# Altium integrated library Diodes - TVS.IntLib: 5379 symbols (part 42 of 122)
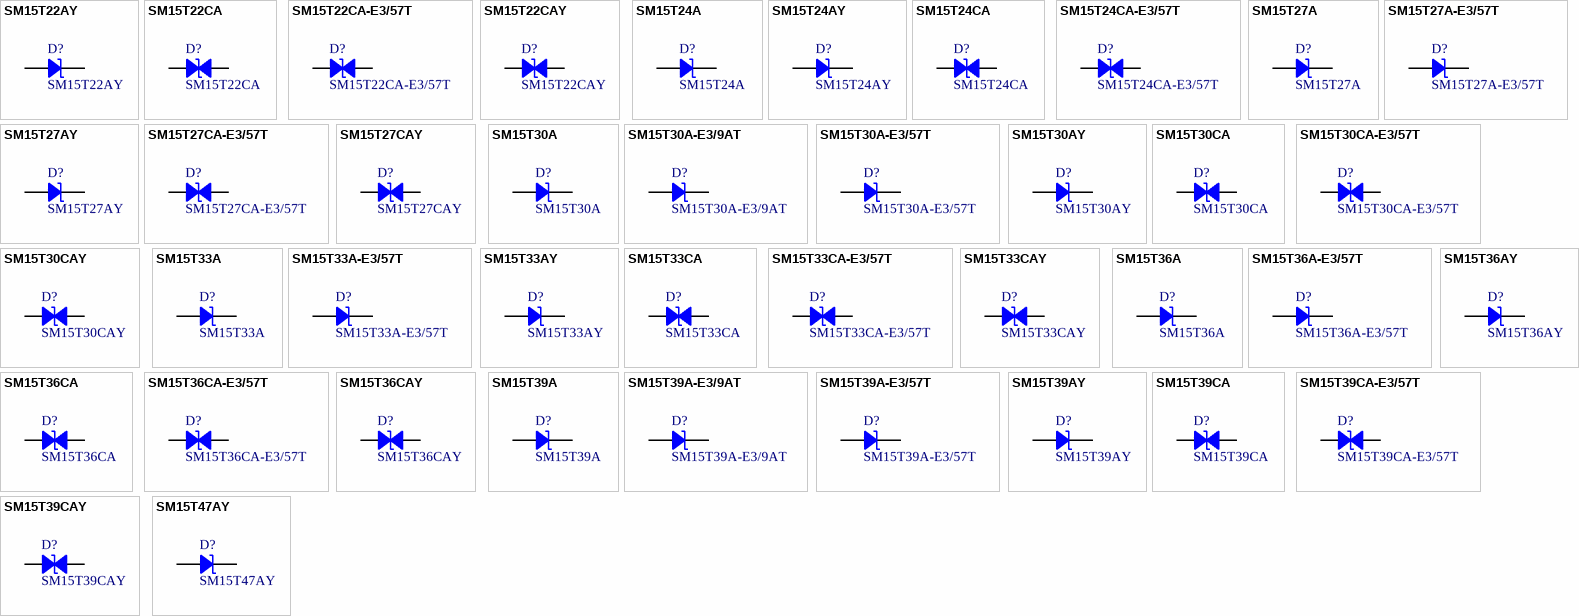
[diagram p175: symbols SM15T22AY to SM15T47AY]

## SM15T27AY
designator D?
TVS DIODE 23.1V 48.3V SMC; Manufacturer: STMicroelectronics; Current - Peak Pulse (10/1000µs): 207A (8/20µs); Power Line Protection: No; Power - Peak Pulse: 1500W (1.5kW); Type: Zener; Unidirectional Channels: 1; Voltage - Breakdown (Min): 25.7V; Part Number: SM15T27AY; Applications: Automotive; ComponentLink1Description: Datasheet; ComponentLink1URL: http://www.st.com/content/ccc/resource/technical/document/datasheet/83/5f/b6/7b/63/85/41/b5/CD00283429.pdf/files/CD00283429.pdf/jcr:content/translations/en.CD00283429.pdf; ComponentLink2Description: DigiKey Link; ComponentLink2URL: http://digikey.com/product-detail/en/stmicroelectronics/SM15T27AY/497-SM15T27AYCT-ND/2442965; LastUpdated: 9/2/2020 1:19:58 AM; Lifecycle Status: Active; Minimum Order: 1; Mounting Type: Surface Mount; Operating Temperature: -40°C ~ 150°C (TJ); Package / Case: DO-214AB, SMC; Packaging: TapeAndReel; PartId: 6216; Part Status: Active; Price: 0.37; Series: Automotive, AEC-Q101, SM15TY, TRANSIL™; Supplier 1: DigiKey; Supplier Part Number 1: 497-SM15T27AYCT-ND; Supplier Device Package: SMC; Voltage - Clamping (Max) @ Ipp: 48.3V; Voltage - Reverse Standoff (Typ): 23.1V
footprint DO214AB SMC
pins: 1, 2

## SM15T27CA-E3/57T
designator D?
TVS DIODE 23.1V 37.5V DO214AB; Manufacturer: Vishay Semiconductor Diodes Division; Bidirectional Channels: 1; Current - Peak Pulse (10/1000µs): 40A; Power Line Protection: No; Power - Peak Pulse: 1500W (1.5kW); Type: Zener; Voltage - Breakdown (Min): 25.7V; Part Number: SM15T27CA-E3/57T; Applications: General Purpose; ComponentLink1Description: Datasheet; ComponentLink1URL: http://www.vishay.com/docs/88380/sm15t.pdf; ComponentLink2Description: DigiKey Link; ComponentLink2URL: http://digikey.com/product-detail/en/vishay-semiconductor-diodes-division/SM15T27CA-E3-57T/SM15T27CA-E3-57TGICT-ND/3847613; LastUpdated: 9/2/2020 1:28:05 AM; Lifecycle Status: Active; Minimum Order: 1; Mounting Type: Surface Mount; Operating Temperature: -65°C ~ 150°C (TJ); Package / Case: DO-214AB, SMC; Packaging: TapeAndReel; PartId: 8288; Part Status: Active; Price: 0.34; Series: SM15T, TransZorb®; Supplier 1: DigiKey; Supplier Part Number 1: SM15T27CA-E3/57TGICT-ND; Supplier Device Package: DO-214AB (SMCJ); Voltage - Clamping (Max) @ Ipp: 37.5V; Voltage - Reverse Standoff (Typ): 23.1V
footprint DO214AB SMC
pins: 1, 2

## SM15T27CAY
designator D?
TVS DIODE 23.1V 48.3V SMC; Manufacturer: STMicroelectronics; Bidirectional Channels: 1; Current - Peak Pulse (10/1000µs): 207A (8/20µs); Power Line Protection: No; Power - Peak Pulse: 1500W (1.5kW); Type: Zener; Voltage - Breakdown (Min): 25.7V; Part Number: SM15T27CAY; Applications: Automotive; ComponentLink1Description: Datasheet; ComponentLink1URL: http://www.st.com/content/ccc/resource/technical/document/datasheet/83/5f/b6/7b/63/85/41/b5/CD00283429.pdf/files/CD00283429.pdf/jcr:content/translations/en.CD00283429.pdf; ComponentLink2Description: DigiKey Link; ComponentLink2URL: http://digikey.com/product-detail/en/stmicroelectronics/SM15T27CAY/497-10900-1-ND/2522523; LastUpdated: 9/2/2020 1:28:03 AM; Lifecycle Status: Active; Minimum Order: 1; Mounting Type: Surface Mount; Operating Temperature: -40°C ~ 150°C (TJ); Package / Case: DO-214AB, SMC; Packaging: TapeAndReel; PartId: 8074; Part Status: Active; Price: 0.37; Series: Automotive, AEC-Q101, SM15TY, TRANSIL™; Supplier 1: DigiKey; Supplier Part Number 1: 497-10900-1-ND; Supplier Device Package: SMC; Voltage - Clamping (Max) @ Ipp: 48.3V; Voltage - Reverse Standoff (Typ): 23.1V
footprint DO214AB SMC
pins: 1, 2

## SM15T30A
designator D?
TVS DIODE 25.6V 53.5V SMC; Manufacturer: STMicroelectronics; Current - Peak Pulse (10/1000µs): 187A (8/20µs); Power Line Protection: No; Power - Peak Pulse: 1500W (1.5kW); Type: Zener; Unidirectional Channels: 1; Voltage - Breakdown (Min): 28.5V; Part Number: SM15T30A; Applications: General Purpose; ComponentLink1Description: Datasheet; ComponentLink1URL: http://www.st.com/content/ccc/resource/technical/document/datasheet/a5/63/bb/0d/f0/b8/44/65/CD00000724.pdf/files/CD00000724.pdf/jcr:content/translations/en.CD00000724.pdf; ComponentLink2Description: DigiKey Link; ComponentLink2URL: http://digikey.com/product-detail/en/stmicroelectronics/SM15T30A/497-7870-1-ND/1883534; LastUpdated: 9/2/2020 1:20:01 AM; Lifecycle Status: Active; Minimum Order: 1; Mounting Type: Surface Mount; Operating Temperature: -55°C ~ 150°C (TJ); Package / Case: DO-214AB, SMC; Packaging: TapeAndReel; PartId: 6484; Part Status: Active; Price: 0.32; Series: SM15T, TRANSIL™; Supplier 1: DigiKey; Supplier Part Number 1: 497-7870-1-ND; Supplier Device Package: SMC; Voltage - Clamping (Max) @ Ipp: 53.5V; Voltage - Reverse Standoff (Typ): 25.6V
footprint DO214AB SMC
pins: 1, 2

## SM15T30A-E3/9AT
designator D?
TVS DIODE 25.6V 41.5V DO214AB; Manufacturer: Vishay Semiconductor Diodes Division; Current - Peak Pulse (10/1000µs): 36A; Power Line Protection: No; Power - Peak Pulse: 1500W (1.5kW); Type: Zener; Unidirectional Channels: 1; Voltage - Breakdown (Min): 28.5V; Part Number: SM15T30A-E3/9AT; Applications: General Purpose; ComponentLink1Description: Datasheet; ComponentLink1URL: http://www.vishay.com/docs/88380/sm15t.pdf; ComponentLink2Description: DigiKey Link; ComponentLink2URL: http://digikey.com/product-detail/en/vishay-semiconductor-diodes-division/SM15T30A-E3-9AT/SM15T30A-E3-9ATGICT-ND/7717378; LastUpdated: 9/2/2020 1:20:03 AM; Lifecycle Status: Active; Minimum Order: 1; Mounting Type: Surface Mount; Operating Temperature: -65°C ~ 150°C (TJ); Package / Case: DO-214AB, SMC; Packaging: TapeAndReel; PartId: 6701; Part Status: Active; Price: 0.23; Series: SM15T, TransZorb®; Supplier 1: DigiKey; Supplier Part Number 1: SM15T30A-E3/9ATGICT-ND; Supplier Device Package: DO-214AB (SMCJ); Voltage - Clamping (Max) @ Ipp: 41.5V; Voltage - Reverse Standoff (Typ): 25.6V
footprint DO214AB SMC
pins: 1, 2

## SM15T30A-E3/57T
designator D?
TVS DIODE 25.6V 41.5V DO214AB; Manufacturer: Vishay Semiconductor Diodes Division; Current - Peak Pulse (10/1000µs): 36A; Power Line Protection: No; Power - Peak Pulse: 1500W (1.5kW); Type: Zener; Unidirectional Channels: 1; Voltage - Breakdown (Min): 28.5V; Part Number: SM15T30A-E3/57T; Applications: General Purpose; ComponentLink1Description: Datasheet; ComponentLink1URL: http://www.vishay.com/docs/88380/sm15t.pdf; ComponentLink2Description: DigiKey Link; ComponentLink2URL: http://digikey.com/product-detail/en/vishay-semiconductor-diodes-division/SM15T30A-E3-57T/SM15T30A-E3-57TGICT-ND/5639110; LastUpdated: 9/2/2020 1:20:03 AM; Lifecycle Status: Active; Minimum Order: 1; Mounting Type: Surface Mount; Operating Temperature: -65°C ~ 150°C (TJ); Package / Case: DO-214AB, SMC; Packaging: TapeAndReel; PartId: 6691; Part Status: Active; Price: 0.29; Series: SM15T, TransZorb®; Supplier 1: DigiKey; Supplier Part Number 1: SM15T30A-E3/57TGICT-ND; Supplier Device Package: DO-214AB (SMCJ); Voltage - Clamping (Max) @ Ipp: 41.5V; Voltage - Reverse Standoff (Typ): 25.6V
footprint DO214AB SMC
pins: 1, 2

## SM15T30AY
designator D?
TVS DIODE 25.6V 53.5V SMC; Manufacturer: STMicroelectronics; Current - Peak Pulse (10/1000µs): 187A (8/20µs); Power Line Protection: No; Power - Peak Pulse: 1500W (1.5kW); Type: Zener; Unidirectional Channels: 1; Voltage - Breakdown (Min): 28.5V; Part Number: SM15T30AY; Applications: Automotive; ComponentLink1Description: Datasheet; ComponentLink1URL: http://www.st.com/content/ccc/resource/technical/document/datasheet/83/5f/b6/7b/63/85/41/b5/CD00283429.pdf/files/CD00283429.pdf/jcr:content/translations/en.CD00283429.pdf; ComponentLink2Description: DigiKey Link; ComponentLink2URL: http://digikey.com/product-detail/en/stmicroelectronics/SM15T30AY/497-10790-1-ND/2442948; LastUpdated: 9/2/2020 1:20:06 AM; Lifecycle Status: Active; Minimum Order: 1; Mounting Type: Surface Mount; Operating Temperature: -40°C ~ 150°C (TJ); Package / Case: DO-214AB, SMC; Packaging: TapeAndReel; PartId: 7044; Part Status: Active; Price: 0.37; Series: Automotive, AEC-Q101, SM15TY, TRANSIL™; Supplier 1: DigiKey; Supplier Part Number 1: 497-10790-1-ND; Supplier Device Package: SMC; Voltage - Clamping (Max) @ Ipp: 53.5V; Voltage - Reverse Standoff (Typ): 25.6V
footprint DO214AB SMC
pins: 1, 2

## SM15T30CA
designator D?
TVS DIODE 25.6V 53.5V SMC; Manufacturer: STMicroelectronics; Bidirectional Channels: 1; Current - Peak Pulse (10/1000µs): 187A (8/20µs); Power Line Protection: No; Power - Peak Pulse: 1500W (1.5kW); Type: Zener; Voltage - Breakdown (Min): 28.5V; Part Number: SM15T30CA; Applications: General Purpose; ComponentLink1Description: Datasheet; ComponentLink1URL: http://www.st.com/content/ccc/resource/technical/document/datasheet/a5/63/bb/0d/f0/b8/44/65/CD00000724.pdf/files/CD00000724.pdf/jcr:content/translations/en.CD00000724.pdf; ComponentLink2Description: DigiKey Link; ComponentLink2URL: http://digikey.com/product-detail/en/stmicroelectronics/SM15T30CA/497-12773-1-ND/2873838; LastUpdated: 9/2/2020 1:28:08 AM; Lifecycle Status: Active; Minimum Order: 1; Mounting Type: Surface Mount; Operating Temperature: -55°C ~ 150°C (TJ); Package / Case: DO-214AB, SMC; Packaging: TapeAndReel; PartId: 8707; Part Status: Active; Price: 0.32; Series: SM15T, TRANSIL™; Supplier 1: DigiKey; Supplier Part Number 1: 497-12773-1-ND; Supplier Device Package: SMC; Voltage - Clamping (Max) @ Ipp: 53.5V; Voltage - Reverse Standoff (Typ): 25.6V
footprint DO214AB SMC
pins: 1, 2

## SM15T30CA-E3/57T
designator D?
TVS DIODE 25.6V 41.5V DO214AB; Manufacturer: Vishay Semiconductor Diodes Division; Bidirectional Channels: 1; Current - Peak Pulse (10/1000µs): 36A; Power Line Protection: No; Power - Peak Pulse: 1500W (1.5kW); Type: Zener; Voltage - Breakdown (Min): 28.5V; Part Number: SM15T30CA-E3/57T; Applications: General Purpose; ComponentLink1Description: Datasheet; ComponentLink1URL: http://www.vishay.com/docs/88380/sm15t.pdf; ComponentLink2Description: DigiKey Link; ComponentLink2URL: http://digikey.com/product-detail/en/vishay-semiconductor-diodes-division/SM15T30CA-E3-57T/SM15T30CA-E3-57TGICT-ND/5639111; LastUpdated: 9/2/2020 1:28:05 AM; Lifecycle Status: Active; Minimum Order: 1; Mounting Type: Surface Mount; Operating Temperature: -65°C ~ 150°C (TJ); Package / Case: DO-214AB, SMC; Packaging: TapeAndReel; PartId: 8292; Part Status: Active; Price: 0.34; Series: SM15T, TransZorb®; Supplier 1: DigiKey; Supplier Part Number 1: SM15T30CA-E3/57TGICT-ND; Supplier Device Package: DO-214AB (SMCJ); Voltage - Clamping (Max) @ Ipp: 41.5V; Voltage - Reverse Standoff (Typ): 25.6V
footprint DO214AB SMC
pins: 1, 2

## SM15T30CAY
designator D?
TVS DIODE 25.6V 53.5V SMC; Manufacturer: STMicroelectronics; Bidirectional Channels: 1; Current - Peak Pulse (10/1000µs): 187A (8/20µs); Power Line Protection: No; Power - Peak Pulse: 1500W (1.5kW); Type: Zener; Voltage - Breakdown (Min): 28.5V; Part Number: SM15T30CAY; Applications: Automotive; ComponentLink1Description: Datasheet; ComponentLink1URL: http://www.st.com/content/ccc/resource/technical/document/datasheet/83/5f/b6/7b/63/85/41/b5/CD00283429.pdf/files/CD00283429.pdf/jcr:content/translations/en.CD00283429.pdf; ComponentLink2Description: DigiKey Link; ComponentLink2URL: http://digikey.com/product-detail/en/stmicroelectronics/SM15T30CAY/497-10791-1-ND/2442954; LastUpdated: 9/2/2020 1:28:04 AM; Lifecycle Status: Active; Minimum Order: 1; Mounting Type: Surface Mount; Operating Temperature: -40°C ~ 150°C (TJ); Package / Case: DO-214AB, SMC; Packaging: TapeAndReel; PartId: 8269; Part Status: Active; Price: 0.38; Series: Automotive, AEC-Q101, SM15TY, TRANSIL™; Supplier 1: DigiKey; Supplier Part Number 1: 497-10791-1-ND; Supplier Device Package: SMC; Voltage - Clamping (Max) @ Ipp: 53.5V; Voltage - Reverse Standoff (Typ): 25.6V
footprint DO214AB SMC
pins: 1, 2

## SM15T33A
designator D?
TVS DIODE 28.2V 59V SMC; Manufacturer: STMicroelectronics; Current - Peak Pulse (10/1000µs): 169A (8/20µs); Power Line Protection: No; Power - Peak Pulse: 1500W (1.5kW); Type: Zener; Unidirectional Channels: 1; Voltage - Breakdown (Min): 31.4V; Part Number: SM15T33A; Applications: General Purpose; ComponentLink1Description: Datasheet; ComponentLink1URL: http://www.st.com/content/ccc/resource/technical/document/datasheet/a5/63/bb/0d/f0/b8/44/65/CD00000724.pdf/files/CD00000724.pdf/jcr:content/translations/en.CD00000724.pdf; ComponentLink2Description: DigiKey Link; ComponentLink2URL: http://digikey.com/product-detail/en/stmicroelectronics/SM15T33A/497-7871-1-ND/1883574; LastUpdated: 9/2/2020 1:20:04 AM; Lifecycle Status: Active; Minimum Order: 1; Mounting Type: Surface Mount; Operating Temperature: -55°C ~ 150°C (TJ); Package / Case: DO-214AB, SMC; Packaging: TapeAndReel; PartId: 6875; Part Status: Active; Price: 0.34; Series: SM15T, TRANSIL™; Supplier 1: DigiKey; Supplier Part Number 1: 497-7871-1-ND; Supplier Device Package: SMC; Voltage - Clamping (Max) @ Ipp: 59V; Voltage - Reverse Standoff (Typ): 28.2V
footprint DO214AB SMC
pins: 1, 2

## SM15T33A-E3/57T
designator D?
TVS DIODE 28.2V 45.7V DO214AB; Manufacturer: Vishay Semiconductor Diodes Division; Current - Peak Pulse (10/1000µs): 33A; Power Line Protection: No; Power - Peak Pulse: 1500W (1.5kW); Type: Zener; Unidirectional Channels: 1; Voltage - Breakdown (Min): 31.4V; Part Number: SM15T33A-E3/57T; Applications: General Purpose; ComponentLink1Description: Datasheet; ComponentLink1URL: http://www.vishay.com/docs/88380/sm15t.pdf; ComponentLink2Description: DigiKey Link; ComponentLink2URL: http://digikey.com/product-detail/en/vishay-semiconductor-diodes-division/SM15T33A-E3-57T/SM15T33A-E3-57TGICT-ND/5639112; LastUpdated: 9/2/2020 1:20:02 AM; Lifecycle Status: Active; Minimum Order: 1; Mounting Type: Surface Mount; Operating Temperature: -65°C ~ 150°C (TJ); Package / Case: DO-214AB, SMC; Packaging: TapeAndReel; PartId: 6551; Part Status: Active; Price: 0.29; Series: SM15T, TransZorb®; Supplier 1: DigiKey; Supplier Part Number 1: SM15T33A-E3/57TGICT-ND; Supplier Device Package: DO-214AB (SMCJ); Voltage - Clamping (Max) @ Ipp: 45.7V; Voltage - Reverse Standoff (Typ): 28.2V
footprint DO214AB SMC
pins: 1, 2

## SM15T33AY
designator D?
TVS DIODE 28.2V 59V SMC; Manufacturer: STMicroelectronics; Current - Peak Pulse (10/1000µs): 169A (8/20µs); Power Line Protection: No; Power - Peak Pulse: 1500W (1.5kW); Type: Zener; Unidirectional Channels: 1; Voltage - Breakdown (Min): 31.4V; Part Number: SM15T33AY; Applications: Automotive; ComponentLink1Description: Datasheet; ComponentLink1URL: http://www.st.com/content/ccc/resource/technical/document/datasheet/83/5f/b6/7b/63/85/41/b5/CD00283429.pdf/files/CD00283429.pdf/jcr:content/translations/en.CD00283429.pdf; ComponentLink2Description: DigiKey Link; ComponentLink2URL: http://digikey.com/product-detail/en/stmicroelectronics/SM15T33AY/497-10901-1-ND/2522524; LastUpdated: 9/2/2020 1:20:06 AM; Lifecycle Status: Active; Minimum Order: 1; Mounting Type: Surface Mount; Operating Temperature: -40°C ~ 150°C (TJ); Package / Case: DO-214AB, SMC; Packaging: TapeAndReel; PartId: 7042; Part Status: Active; Price: 0.37; Series: Automotive, AEC-Q101, SM15TY, TRANSIL™; Supplier 1: DigiKey; Supplier Part Number 1: 497-10901-1-ND; Supplier Device Package: SMC; Voltage - Clamping (Max) @ Ipp: 59V; Voltage - Reverse Standoff (Typ): 28.2V
footprint DO214AB SMC
pins: 1, 2

## SM15T33CA
designator D?
TVS DIODE 28.2V 59V SMC; Manufacturer: STMicroelectronics; Bidirectional Channels: 1; Current - Peak Pulse (10/1000µs): 169A (8/20µs); Power Line Protection: No; Power - Peak Pulse: 1500W (1.5kW); Type: Zener; Voltage - Breakdown (Min): 31.4V; Part Number: SM15T33CA; Applications: General Purpose; ComponentLink1Description: Datasheet; ComponentLink1URL: http://www.st.com/content/ccc/resource/technical/document/datasheet/a5/63/bb/0d/f0/b8/44/65/CD00000724.pdf/files/CD00000724.pdf/jcr:content/translations/en.CD00000724.pdf; ComponentLink2Description: DigiKey Link; ComponentLink2URL: http://digikey.com/product-detail/en/stmicroelectronics/SM15T33CA/497-7872-1-ND/1883458; LastUpdated: 9/2/2020 1:28:03 AM; Lifecycle Status: Active; Minimum Order: 1; Mounting Type: Surface Mount; Operating Temperature: -55°C ~ 150°C (TJ); Package / Case: DO-214AB, SMC; Packaging: TapeAndReel; PartId: 8108; Part Status: Active; Price: 0.34; Series: SM15T, TRANSIL™; Supplier 1: DigiKey; Supplier Part Number 1: 497-7872-1-ND; Supplier Device Package: SMC; Voltage - Clamping (Max) @ Ipp: 59V; Voltage - Reverse Standoff (Typ): 28.2V
footprint DO214AB SMC
pins: 1, 2

## SM15T33CA-E3/57T
designator D?
TVS DIODE 28.2V 45.7V DO214AB; Manufacturer: Vishay Semiconductor Diodes Division; Bidirectional Channels: 1; Current - Peak Pulse (10/1000µs): 33A; Power Line Protection: No; Power - Peak Pulse: 1500W (1.5kW); Type: Zener; Voltage - Breakdown (Min): 31.4V; Part Number: SM15T33CA-E3/57T; Applications: General Purpose; ComponentLink1Description: Datasheet; ComponentLink1URL: http://www.vishay.com/docs/88380/sm15t.pdf; ComponentLink2Description: DigiKey Link; ComponentLink2URL: http://digikey.com/product-detail/en/vishay-semiconductor-diodes-division/SM15T33CA-E3-57T/SM15T33CA-E3-57TGICT-ND/5639113; LastUpdated: 9/2/2020 1:28:09 AM; Lifecycle Status: Active; Minimum Order: 1; Mounting Type: Surface Mount; Operating Temperature: -65°C ~ 150°C (TJ); Package / Case: DO-214AB, SMC; Packaging: TapeAndReel; PartId: 8736; Part Status: Active; Price: 0.34; Series: SM15T, TransZorb®; Supplier 1: DigiKey; Supplier Part Number 1: SM15T33CA-E3/57TGICT-ND; Supplier Device Package: DO-214AB (SMCJ); Voltage - Clamping (Max) @ Ipp: 45.7V; Voltage - Reverse Standoff (Typ): 28.2V
footprint DO214AB SMC
pins: 1, 2

## SM15T33CAY
designator D?
TVS DIODE 28.2V 59V SMC; Manufacturer: STMicroelectronics; Bidirectional Channels: 1; Current - Peak Pulse (10/1000µs): 169A (8/20µs); Power Line Protection: No; Power - Peak Pulse: 1500W (1.5kW); Type: Zener; Voltage - Breakdown (Min): 31.4V; Part Number: SM15T33CAY; Applications: Automotive; ComponentLink1Description: Datasheet; ComponentLink1URL: http://www.st.com/content/ccc/resource/technical/document/datasheet/83/5f/b6/7b/63/85/41/b5/CD00283429.pdf/files/CD00283429.pdf/jcr:content/translations/en.CD00283429.pdf; ComponentLink2Description: DigiKey Link; ComponentLink2URL: http://digikey.com/product-detail/en/stmicroelectronics/SM15T33CAY/497-10792-1-ND/2442952; LastUpdated: 9/2/2020 1:28:06 AM; Lifecycle Status: Active; Minimum Order: 1; Mounting Type: Surface Mount; Operating Temperature: -40°C ~ 150°C (TJ); Package / Case: DO-214AB, SMC; Packaging: TapeAndReel; PartId: 8439; Part Status: Active; Price: 0.38; Series: Automotive, AEC-Q101, SM15TY, TRANSIL™; Supplier 1: DigiKey; Supplier Part Number 1: 497-10792-1-ND; Supplier Device Package: SMC; Voltage - Clamping (Max) @ Ipp: 59V; Voltage - Reverse Standoff (Typ): 28.2V
footprint DO214AB SMC
pins: 1, 2

## SM15T36A
designator D?
TVS DIODE 30.8V 64.3V SMC; Manufacturer: STMicroelectronics; Current - Peak Pulse (10/1000µs): 156A (8/20µs); Power Line Protection: No; Power - Peak Pulse: 1500W (1.5kW); Type: Zener; Unidirectional Channels: 1; Voltage - Breakdown (Min): 34.2V; Part Number: SM15T36A; Applications: General Purpose; ComponentLink1Description: Datasheet; ComponentLink1URL: http://www.st.com/content/ccc/resource/technical/document/datasheet/a5/63/bb/0d/f0/b8/44/65/CD00000724.pdf/files/CD00000724.pdf/jcr:content/translations/en.CD00000724.pdf; ComponentLink2Description: DigiKey Link; ComponentLink2URL: http://digikey.com/product-detail/en/stmicroelectronics/SM15T36A/497-6485-1-ND/1865464; LastUpdated: 9/2/2020 1:20:03 AM; Lifecycle Status: Active; Minimum Order: 1; Mounting Type: Surface Mount; Operating Temperature: -55°C ~ 150°C (TJ); Package / Case: DO-214AB, SMC; Packaging: TapeAndReel; PartId: 6672; Part Status: Active; Price: 0.31; Series: SM15T, TRANSIL™; Supplier 1: DigiKey; Supplier Part Number 1: 497-6485-1-ND; Supplier Device Package: SMC; Voltage - Clamping (Max) @ Ipp: 64.3V; Voltage - Reverse Standoff (Typ): 30.8V
footprint DO214AB SMC
pins: 1, 2

## SM15T36A-E3/57T
designator D?
TVS DIODE 30.8V 49.9V DO214AB; Manufacturer: Vishay Semiconductor Diodes Division; Current - Peak Pulse (10/1000µs): 30A; Power Line Protection: No; Power - Peak Pulse: 1500W (1.5kW); Type: Zener; Unidirectional Channels: 1; Voltage - Breakdown (Min): 34.2V; Part Number: SM15T36A-E3/57T; Applications: General Purpose; ComponentLink1Description: Datasheet; ComponentLink1URL: http://www.vishay.com/docs/88380/sm15t.pdf; ComponentLink2Description: DigiKey Link; ComponentLink2URL: http://digikey.com/product-detail/en/vishay-semiconductor-diodes-division/SM15T36A-E3-57T/SM15T36A-E3-57TGICT-ND/5639114; LastUpdated: 9/2/2020 1:20:01 AM; Lifecycle Status: Active; Minimum Order: 1; Mounting Type: Surface Mount; Operating Temperature: -65°C ~ 150°C (TJ); Package / Case: DO-214AB, SMC; Packaging: TapeAndReel; PartId: 6546; Part Status: Active; Price: 0.29; Series: SM15T, TransZorb®; Supplier 1: DigiKey; Supplier Part Number 1: SM15T36A-E3/57TGICT-ND; Supplier Device Package: DO-214AB (SMCJ); Voltage - Clamping (Max) @ Ipp: 49.9V; Voltage - Reverse Standoff (Typ): 30.8V
footprint DO214AB SMC
pins: 1, 2

## SM15T36AY
designator D?
TVS DIODE 30.8V 64.3V SMC; Manufacturer: STMicroelectronics; Current - Peak Pulse (10/1000µs): 156A (8/20µs); Power Line Protection: No; Power - Peak Pulse: 1500W (1.5kW); Type: Zener; Unidirectional Channels: 1; Voltage - Breakdown (Min): 34.2V; Part Number: SM15T36AY; Applications: Automotive; ComponentLink1Description: Datasheet; ComponentLink1URL: http://www.st.com/content/ccc/resource/technical/document/datasheet/83/5f/b6/7b/63/85/41/b5/CD00283429.pdf/files/CD00283429.pdf/jcr:content/translations/en.CD00283429.pdf; ComponentLink2Description: DigiKey Link; ComponentLink2URL: http://digikey.com/product-detail/en/stmicroelectronics/SM15T36AY/497-10902-1-ND/2522525; LastUpdated: 9/2/2020 1:20:04 AM; Lifecycle Status: Active; Minimum Order: 1; Mounting Type: Surface Mount; Operating Temperature: -40°C ~ 150°C (TJ); Package / Case: DO-214AB, SMC; Packaging: TapeAndReel; PartId: 6880; Part Status: Active; Price: 0.37; Series: Automotive, AEC-Q101, SM15TY, TRANSIL™; Supplier 1: DigiKey; Supplier Part Number 1: 497-10902-1-ND; Supplier Device Package: SMC; Voltage - Clamping (Max) @ Ipp: 64.3V; Voltage - Reverse Standoff (Typ): 30.8V
footprint DO214AB SMC
pins: 1, 2

## SM15T36CA
designator D?
TVS DIODE 30.8V 64.3V SMC; Manufacturer: STMicroelectronics; Bidirectional Channels: 1; Current - Peak Pulse (10/1000µs): 156A (8/20µs); Power Line Protection: No; Power - Peak Pulse: 1500W (1.5kW); Type: Zener; Voltage - Breakdown (Min): 34.2V; Part Number: SM15T36CA; Applications: General Purpose; ComponentLink1Description: Datasheet; ComponentLink1URL: http://www.st.com/content/ccc/resource/technical/document/datasheet/a5/63/bb/0d/f0/b8/44/65/CD00000724.pdf/files/CD00000724.pdf/jcr:content/translations/en.CD00000724.pdf; ComponentLink2Description: DigiKey Link; ComponentLink2URL: http://digikey.com/product-detail/en/stmicroelectronics/SM15T36CA/497-7873-1-ND/1883690; LastUpdated: 9/2/2020 1:28:05 AM; Lifecycle Status: Active; Minimum Order: 1; Mounting Type: Surface Mount; Operating Temperature: -55°C ~ 150°C (TJ); Package / Case: DO-214AB, SMC; Packaging: TapeAndReel; PartId: 8275; Part Status: Active; Price: 0.34; Series: SM15T, TRANSIL™; Supplier 1: DigiKey; Supplier Part Number 1: 497-7873-1-ND; Supplier Device Package: SMC; Voltage - Clamping (Max) @ Ipp: 64.3V; Voltage - Reverse Standoff (Typ): 30.8V
footprint DO214AB SMC
pins: 1, 2

## SM15T36CA-E3/57T
designator D?
TVS DIODE 30.8V 49.9V DO214AB; Manufacturer: Vishay Semiconductor Diodes Division; Bidirectional Channels: 1; Current - Peak Pulse (10/1000µs): 30A; Power Line Protection: No; Power - Peak Pulse: 1500W (1.5kW); Type: Zener; Voltage - Breakdown (Min): 34.2V; Part Number: SM15T36CA-E3/57T; Applications: General Purpose; ComponentLink1Description: Datasheet; ComponentLink1URL: http://www.vishay.com/docs/88380/sm15t.pdf; ComponentLink2Description: DigiKey Link; ComponentLink2URL: http://digikey.com/product-detail/en/vishay-semiconductor-diodes-division/SM15T36CA-E3-57T/SM15T36CA-E3-57TGICT-ND/5639115; LastUpdated: 9/2/2020 1:28:08 AM; Lifecycle Status: Active; Minimum Order: 1; Mounting Type: Surface Mount; Operating Temperature: -65°C ~ 150°C (TJ); Package / Case: DO-214AB, SMC; Packaging: TapeAndReel; PartId: 8678; Part Status: Active; Price: 0.34; Series: SM15T, TransZorb®; Supplier 1: DigiKey; Supplier Part Number 1: SM15T36CA-E3/57TGICT-ND; Supplier Device Package: DO-214AB (SMCJ); Voltage - Clamping (Max) @ Ipp: 49.9V; Voltage - Reverse Standoff (Typ): 30.8V
footprint DO214AB SMC
pins: 1, 2

## SM15T36CAY
designator D?
TVS DIODE 30.8V 64.3V SMC; Manufacturer: STMicroelectronics; Bidirectional Channels: 1; Current - Peak Pulse (10/1000µs): 156A (8/20µs); Power Line Protection: No; Power - Peak Pulse: 1500W (1.5kW); Type: Zener; Voltage - Breakdown (Min): 34.2V; Part Number: SM15T36CAY; Applications: Automotive; ComponentLink1Description: Datasheet; ComponentLink1URL: http://www.st.com/content/ccc/resource/technical/document/datasheet/83/5f/b6/7b/63/85/41/b5/CD00283429.pdf/files/CD00283429.pdf/jcr:content/translations/en.CD00283429.pdf; ComponentLink2Description: DigiKey Link; ComponentLink2URL: http://digikey.com/product-detail/en/stmicroelectronics/SM15T36CAY/497-10903-1-ND/2522526; LastUpdated: 9/2/2020 1:28:05 AM; Lifecycle Status: Active; Minimum Order: 1; Mounting Type: Surface Mount; Operating Temperature: -40°C ~ 150°C (TJ); Package / Case: DO-214AB, SMC; Packaging: TapeAndReel; PartId: 8273; Part Status: Active; Price: 0.38; Series: Automotive, AEC-Q101, SM15TY, TRANSIL™; Supplier 1: DigiKey; Supplier Part Number 1: 497-10903-1-ND; Supplier Device Package: SMC; Voltage - Clamping (Max) @ Ipp: 64.3V; Voltage - Reverse Standoff (Typ): 30.8V
footprint DO214AB SMC
pins: 1, 2

## SM15T39A
designator D?
TVS DIODE 33.3V 69.7V SMC; Manufacturer: STMicroelectronics; Current - Peak Pulse (10/1000µs): 143A (8/20µs); Power Line Protection: No; Power - Peak Pulse: 1500W (1.5kW); Type: Zener; Unidirectional Channels: 1; Voltage - Breakdown (Min): 37.1V; Part Number: SM15T39A; Applications: General Purpose; ComponentLink1Description: Datasheet; ComponentLink1URL: http://www.st.com/content/ccc/resource/technical/document/datasheet/a5/63/bb/0d/f0/b8/44/65/CD00000724.pdf/files/CD00000724.pdf/jcr:content/translations/en.CD00000724.pdf; ComponentLink2Description: DigiKey Link; ComponentLink2URL: http://digikey.com/product-detail/en/stmicroelectronics/SM15T39A/497-3716-1-ND/686434; LastUpdated: 9/2/2020 1:20:07 AM; Lifecycle Status: Active; Minimum Order: 1; Mounting Type: Surface Mount; Operating Temperature: -55°C ~ 150°C (TJ); Package / Case: DO-214AB, SMC; Packaging: TapeAndReel; PartId: 7185; Part Status: Active; Price: 0.32; Series: SM15T, TRANSIL™; Supplier 1: DigiKey; Supplier Part Number 1: 497-3716-1-ND; Supplier Device Package: SMC; Voltage - Clamping (Max) @ Ipp: 69.7V; Voltage - Reverse Standoff (Typ): 33.3V
footprint DO214AB SMC
pins: 1, 2

## SM15T39A-E3/9AT
designator D?
TVS DIODE 33.3V 53.9V DO214AB; Manufacturer: Vishay Semiconductor Diodes Division; Current - Peak Pulse (10/1000µs): 28A; Power Line Protection: No; Power - Peak Pulse: 1500W (1.5kW); Type: Zener; Unidirectional Channels: 1; Voltage - Breakdown (Min): 37.1V; Part Number: SM15T39A-E3/9AT; Applications: General Purpose; ComponentLink1Description: Datasheet; ComponentLink1URL: http://www.vishay.com/docs/88380/sm15t.pdf; ComponentLink2Description: DigiKey Link; ComponentLink2URL: http://digikey.com/product-detail/en/vishay-semiconductor-diodes-division/SM15T39A-E3-9AT/SM15T39A-E3-9ATGICT-ND/9600929; LastUpdated: 9/2/2020 1:20:01 AM; Lifecycle Status: Active; Minimum Order: 1; Mounting Type: Surface Mount; Operating Temperature: -65°C ~ 150°C (TJ); Package / Case: DO-214AB, SMC; Packaging: TapeAndReel; PartId: 6547; Part Status: Active; Price: 0.23; Series: SM15T, TransZorb®; Supplier 1: DigiKey; Supplier Part Number 1: SM15T39A-E3/9ATGICT-ND; Supplier Device Package: DO-214AB (SMCJ); Voltage - Clamping (Max) @ Ipp: 53.9V; Voltage - Reverse Standoff (Typ): 33.3V
footprint DO214AB SMC
pins: 1, 2

## SM15T39A-E3/57T
designator D?
TVS DIODE 33.3V 53.9V DO214AB; Manufacturer: Vishay Semiconductor Diodes Division; Current - Peak Pulse (10/1000µs): 28A; Power Line Protection: No; Power - Peak Pulse: 1500W (1.5kW); Type: Zener; Unidirectional Channels: 1; Voltage - Breakdown (Min): 37.1V; Part Number: SM15T39A-E3/57T; Applications: General Purpose; ComponentLink1Description: Datasheet; ComponentLink1URL: http://www.vishay.com/docs/88380/sm15t.pdf; ComponentLink2Description: DigiKey Link; ComponentLink2URL: http://digikey.com/product-detail/en/vishay-semiconductor-diodes-division/SM15T39A-E3-57T/SM15T39A-E3-57TGICT-ND/5639116; LastUpdated: 9/2/2020 1:20:08 AM; Lifecycle Status: Active; Minimum Order: 1; Mounting Type: Surface Mount; Operating Temperature: -65°C ~ 150°C (TJ); Package / Case: DO-214AB, SMC; Packaging: TapeAndReel; PartId: 7231; Part Status: Active; Price: 0.29; Series: SM15T, TransZorb®; Supplier 1: DigiKey; Supplier Part Number 1: SM15T39A-E3/57TGICT-ND; Supplier Device Package: DO-214AB (SMCJ); Voltage - Clamping (Max) @ Ipp: 53.9V; Voltage - Reverse Standoff (Typ): 33.3V
footprint DO214AB SMC
pins: 1, 2

## SM15T39AY
designator D?
TVS DIODE 33.3V 69.7V SMC; Manufacturer: STMicroelectronics; Current - Peak Pulse (10/1000µs): 143A (8/20µs); Power Line Protection: No; Power - Peak Pulse: 1500W (1.5kW); Type: Zener; Unidirectional Channels: 1; Voltage - Breakdown (Min): 37.1V; Part Number: SM15T39AY; Applications: Automotive; ComponentLink1Description: Datasheet; ComponentLink1URL: http://www.st.com/content/ccc/resource/technical/document/datasheet/83/5f/b6/7b/63/85/41/b5/CD00283429.pdf/files/CD00283429.pdf/jcr:content/translations/en.CD00283429.pdf; ComponentLink2Description: DigiKey Link; ComponentLink2URL: http://digikey.com/product-detail/en/stmicroelectronics/SM15T39AY/497-10904-1-ND/2522527; LastUpdated: 9/2/2020 1:20:04 AM; Lifecycle Status: Active; Minimum Order: 1; Mounting Type: Surface Mount; Operating Temperature: -40°C ~ 150°C (TJ); Package / Case: DO-214AB, SMC; Packaging: TapeAndReel; PartId: 6881; Part Status: Active; Price: 0.37; Series: Automotive, AEC-Q101, SM15TY, TRANSIL™; Supplier 1: DigiKey; Supplier Part Number 1: 497-10904-1-ND; Supplier Device Package: SMC; Voltage - Clamping (Max) @ Ipp: 69.7V; Voltage - Reverse Standoff (Typ): 33.3V
footprint DO214AB SMC
pins: 1, 2

## SM15T39CA
designator D?
TVS DIODE 33.3V 69.7V SMC; Manufacturer: STMicroelectronics; Bidirectional Channels: 1; Current - Peak Pulse (10/1000µs): 143A (8/20µs); Power Line Protection: No; Power - Peak Pulse: 1500W (1.5kW); Type: Zener; Voltage - Breakdown (Min): 37.1V; Part Number: SM15T39CA; Applications: General Purpose; ComponentLink1Description: Datasheet; ComponentLink1URL: http://www.st.com/content/ccc/resource/technical/document/datasheet/a5/63/bb/0d/f0/b8/44/65/CD00000724.pdf/files/CD00000724.pdf/jcr:content/translations/en.CD00000724.pdf; ComponentLink2Description: DigiKey Link; ComponentLink2URL: http://digikey.com/product-detail/en/stmicroelectronics/SM15T39CA/497-6486-1-ND/1865462; LastUpdated: 9/2/2020 1:28:03 AM; Lifecycle Status: Active; Minimum Order: 1; Mounting Type: Surface Mount; Operating Temperature: -55°C ~ 150°C (TJ); Package / Case: DO-214AB, SMC; Packaging: TapeAndReel; PartId: 8107; Part Status: Active; Price: 0.34; Series: SM15T, TRANSIL™; Supplier 1: DigiKey; Supplier Part Number 1: 497-6486-1-ND; Supplier Device Package: SMC; Voltage - Clamping (Max) @ Ipp: 69.7V; Voltage - Reverse Standoff (Typ): 33.3V
footprint DO214AB SMC
pins: 1, 2

## SM15T39CA-E3/57T
designator D?
TVS DIODE 33.3V 53.9V DO214AB; Manufacturer: Vishay Semiconductor Diodes Division; Bidirectional Channels: 1; Current - Peak Pulse (10/1000µs): 28A; Power Line Protection: No; Power - Peak Pulse: 1500W (1.5kW); Type: Zener; Voltage - Breakdown (Min): 37.1V; Part Number: SM15T39CA-E3/57T; Applications: General Purpose; ComponentLink1Description: Datasheet; ComponentLink1URL: http://www.vishay.com/docs/88380/sm15t.pdf; ComponentLink2Description: DigiKey Link; ComponentLink2URL: http://digikey.com/product-detail/en/vishay-semiconductor-diodes-division/SM15T39CA-E3-57T/SM15T39CA-E3-57TGICT-ND/5639117; LastUpdated: 9/2/2020 1:28:06 AM; Lifecycle Status: Active; Minimum Order: 1; Mounting Type: Surface Mount; Operating Temperature: -65°C ~ 150°C (TJ); Package / Case: DO-214AB, SMC; Packaging: TapeAndReel; PartId: 8491; Part Status: Active; Price: 0.34; Series: SM15T, TransZorb®; Supplier 1: DigiKey; Supplier Part Number 1: SM15T39CA-E3/57TGICT-ND; Supplier Device Package: DO-214AB (SMCJ); Voltage - Clamping (Max) @ Ipp: 53.9V; Voltage - Reverse Standoff (Typ): 33.3V
footprint DO214AB SMC
pins: 1, 2

## SM15T39CAY
designator D?
TVS DIODE 33.3V 69.7V SMC; Manufacturer: STMicroelectronics; Bidirectional Channels: 1; Current - Peak Pulse (10/1000µs): 143A (8/20µs); Power Line Protection: No; Power - Peak Pulse: 1500W (1.5kW); Type: Zener; Voltage - Breakdown (Min): 37.1V; Part Number: SM15T39CAY; Applications: Automotive; ComponentLink1Description: Datasheet; ComponentLink1URL: http://www.st.com/content/ccc/resource/technical/document/datasheet/83/5f/b6/7b/63/85/41/b5/CD00283429.pdf/files/CD00283429.pdf/jcr:content/translations/en.CD00283429.pdf; ComponentLink2Description: DigiKey Link; ComponentLink2URL: http://digikey.com/product-detail/en/stmicroelectronics/SM15T39CAY/497-10793-1-ND/2442950; LastUpdated: 9/2/2020 1:28:03 AM; Lifecycle Status: Active; Minimum Order: 1; Mounting Type: Surface Mount; Operating Temperature: -40°C ~ 150°C (TJ); Package / Case: DO-214AB, SMC; Packaging: TapeAndReel; PartId: 8102; Part Status: Active; Price: 0.38; Series: Automotive, AEC-Q101, SM15TY, TRANSIL™; Supplier 1: DigiKey; Supplier Part Number 1: 497-10793-1-ND; Supplier Device Package: SMC; Voltage - Clamping (Max) @ Ipp: 69.7V; Voltage - Reverse Standoff (Typ): 33.3V
footprint DO214AB SMC
pins: 1, 2

## SM15T47AY
designator D?
TVS DIODE 40.2V 84V SMC; Manufacturer: STMicroelectronics; Current - Peak Pulse (10/1000µs): 119A (8/20µs); Power Line Protection: No; Power - Peak Pulse: 1500W (1.5kW); Type: Zener; Unidirectional Channels: 1; Voltage - Breakdown (Min): 44.7V; Part Number: SM15T47AY; Applications: Automotive; ComponentLink1Description: Datasheet; ComponentLink1URL: http://www.st.com/content/ccc/resource/technical/document/datasheet/83/5f/b6/7b/63/85/41/b5/CD00283429.pdf/files/CD00283429.pdf/jcr:content/translations/en.CD00283429.pdf; ComponentLink2Description: DigiKey Link; ComponentLink2URL: http://digikey.com/product-detail/en/stmicroelectronics/SM15T47AY/497-10905-1-ND/2522528; LastUpdated: 9/2/2020 1:20:04 AM; Lifecycle Status: Active; Minimum Order: 1; Mounting Type: Surface Mount; Operating Temperature: -40°C ~ 150°C (TJ); Package / Case: DO-214AB, SMC; Packaging: TapeAndReel; PartId: 6882; Part Status: Active; Price: 0.37; Series: Automotive, AEC-Q101, SM15TY, TRANSIL™; Supplier 1: DigiKey; Supplier Part Number 1: 497-10905-1-ND; Supplier Device Package: SMC; Voltage - Clamping (Max) @ Ipp: 84V; Voltage - Reverse Standoff (Typ): 40.2V
footprint DO214AB SMC
pins: 1, 2

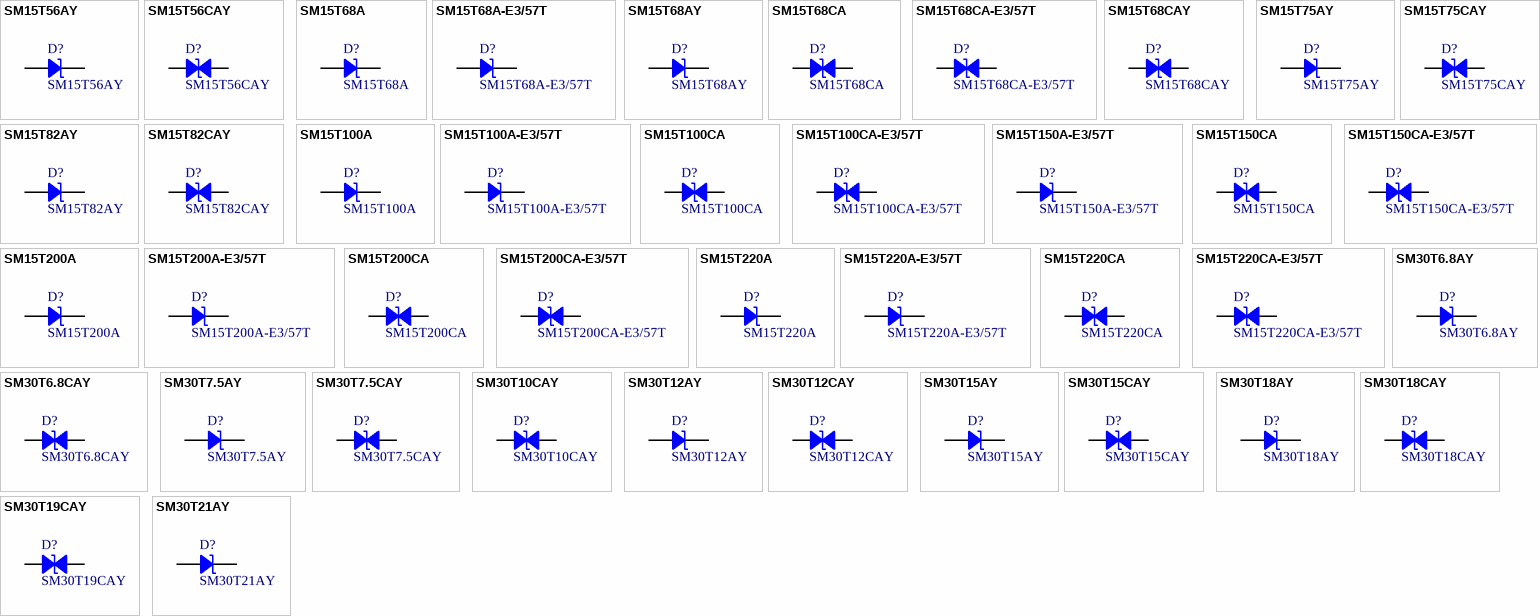
[diagram p46: symbols SM15T56AY to SM30T21AY]

## SM15T56AY
designator D?
TVS DIODE 48V 100V SMC; Manufacturer: STMicroelectronics; Current - Peak Pulse (10/1000µs): 100A (8/20µs); Power Line Protection: No; Power - Peak Pulse: 1500W (1.5kW); Type: Zener; Unidirectional Channels: 1; Voltage - Breakdown (Min): 53.3V; Part Number: SM15T56AY; Applications: Automotive; ComponentLink1Description: Datasheet; ComponentLink1URL: http://www.st.com/content/ccc/resource/technical/document/datasheet/83/5f/b6/7b/63/85/41/b5/CD00283429.pdf/files/CD00283429.pdf/jcr:content/translations/en.CD00283429.pdf; ComponentLink2Description: DigiKey Link; ComponentLink2URL: http://digikey.com/product-detail/en/stmicroelectronics/SM15T56AY/497-11778-1-ND/2756570; LastUpdated: 9/2/2020 1:20:03 AM; Lifecycle Status: Active; Minimum Order: 1; Mounting Type: Surface Mount; Operating Temperature: -40°C ~ 150°C (TJ); Package / Case: DO-214AB, SMC; Packaging: TapeAndReel; PartId: 6661; Part Status: Active; Price: 0.37; Series: Automotive, AEC-Q101, SM15TY, TRANSIL™; Supplier 1: DigiKey; Supplier Part Number 1: 497-11778-1-ND; Supplier Device Package: SMC; Voltage - Clamping (Max) @ Ipp: 100V; Voltage - Reverse Standoff (Typ): 48V
footprint DO214AB SMC
pins: 1, 2

## SM15T56CAY
designator D?
TVS DIODE 48V 100V SMC; Manufacturer: STMicroelectronics; Bidirectional Channels: 1; Current - Peak Pulse (10/1000µs): 100A (8/20µs); Power Line Protection: No; Power - Peak Pulse: 1500W (1.5kW); Type: Zener; Voltage - Breakdown (Min): 53.3V; Part Number: SM15T56CAY; Applications: Automotive; ComponentLink1Description: Datasheet; ComponentLink1URL: http://www.st.com/content/ccc/resource/technical/document/datasheet/83/5f/b6/7b/63/85/41/b5/CD00283429.pdf/files/CD00283429.pdf/jcr:content/translations/en.CD00283429.pdf; ComponentLink2Description: DigiKey Link; ComponentLink2URL: http://digikey.com/product-detail/en/stmicroelectronics/SM15T56CAY/497-11779-1-ND/2756569; LastUpdated: 9/2/2020 1:28:08 AM; Lifecycle Status: Active; Minimum Order: 1; Mounting Type: Surface Mount; Operating Temperature: -40°C ~ 150°C (TJ); Package / Case: DO-214AB, SMC; Packaging: TapeAndReel; PartId: 8623; Part Status: Active; Price: 0.38; Series: Automotive, AEC-Q101, SM15TY, TRANSIL™; Supplier 1: DigiKey; Supplier Part Number 1: 497-11779-1-ND; Supplier Device Package: SMC; Voltage - Clamping (Max) @ Ipp: 100V; Voltage - Reverse Standoff (Typ): 48V
footprint DO214AB SMC
pins: 1, 2

## SM15T68A
designator D?
TVS DIODE 58.1V 121V SMC; Manufacturer: STMicroelectronics; Current - Peak Pulse (10/1000µs): 83A (8/20µs); Power Line Protection: No; Power - Peak Pulse: 1500W (1.5kW); Type: Zener; Unidirectional Channels: 1; Voltage - Breakdown (Min): 64.6V; Part Number: SM15T68A; Applications: General Purpose; ComponentLink1Description: Datasheet; ComponentLink1URL: http://www.st.com/content/ccc/resource/technical/document/datasheet/a5/63/bb/0d/f0/b8/44/65/CD00000724.pdf/files/CD00000724.pdf/jcr:content/translations/en.CD00000724.pdf; ComponentLink2Description: DigiKey Link; ComponentLink2URL: http://digikey.com/product-detail/en/stmicroelectronics/SM15T68A/497-7874-1-ND/1883692; LastUpdated: 9/2/2020 1:20:04 AM; Lifecycle Status: Active; Minimum Order: 1; Mounting Type: Surface Mount; Operating Temperature: -55°C ~ 150°C (TJ); Package / Case: DO-214AB, SMC; Packaging: TapeAndReel; PartId: 6840; Part Status: Active; Price: 0.35; Series: SM15T, TRANSIL™; Supplier 1: DigiKey; Supplier Part Number 1: 497-7874-1-ND; Supplier Device Package: SMC; Voltage - Clamping (Max) @ Ipp: 121V; Voltage - Reverse Standoff (Typ): 58.1V
footprint DO214AB SMC
pins: 1, 2

## SM15T68A-E3/57T
designator D?
TVS DIODE 58.1V 92V DO214AB; Manufacturer: Vishay Semiconductor Diodes Division; Current - Peak Pulse (10/1000µs): 16.3A; Power Line Protection: No; Power - Peak Pulse: 1500W (1.5kW); Type: Zener; Unidirectional Channels: 1; Voltage - Breakdown (Min): 64.6V; Part Number: SM15T68A-E3/57T; Applications: General Purpose; ComponentLink1Description: Datasheet; ComponentLink1URL: http://www.vishay.com/docs/88380/sm15t.pdf; ComponentLink2Description: DigiKey Link; ComponentLink2URL: http://digikey.com/product-detail/en/vishay-semiconductor-diodes-division/SM15T68A-E3-57T/SM15T68A-E3-57TGICT-ND/5639118; LastUpdated: 9/2/2020 1:19:59 AM; Lifecycle Status: Active; Minimum Order: 1; Mounting Type: Surface Mount; Operating Temperature: -65°C ~ 150°C (TJ); Package / Case: DO-214AB, SMC; Packaging: TapeAndReel; PartId: 6289; Part Status: Active; Price: 0.29; Series: SM15T, TransZorb®; Supplier 1: DigiKey; Supplier Part Number 1: SM15T68A-E3/57TGICT-ND; Supplier Device Package: DO-214AB (SMCJ); Voltage - Clamping (Max) @ Ipp: 92V; Voltage - Reverse Standoff (Typ): 58.1V
footprint DO214AB SMC
pins: 1, 2

## SM15T68AY
designator D?
TVS DIODE 58.1V 121V SMC; Manufacturer: STMicroelectronics; Current - Peak Pulse (10/1000µs): 83A (8/20µs); Power Line Protection: No; Power - Peak Pulse: 1500W (1.5kW); Type: Zener; Unidirectional Channels: 1; Voltage - Breakdown (Min): 64.6V; Part Number: SM15T68AY; Applications: Automotive; ComponentLink1Description: Datasheet; ComponentLink1URL: http://www.st.com/content/ccc/resource/technical/document/datasheet/83/5f/b6/7b/63/85/41/b5/CD00283429.pdf/files/CD00283429.pdf/jcr:content/translations/en.CD00283429.pdf; ComponentLink2Description: DigiKey Link; ComponentLink2URL: http://digikey.com/product-detail/en/stmicroelectronics/SM15T68AY/497-10794-1-ND/2442947; LastUpdated: 9/2/2020 1:20:08 AM; Lifecycle Status: Active; Minimum Order: 1; Mounting Type: Surface Mount; Operating Temperature: -40°C ~ 150°C (TJ); Package / Case: DO-214AB, SMC; Packaging: TapeAndReel; PartId: 7225; Part Status: Active; Price: 0.37; Series: Automotive, AEC-Q101, SM15TY, TRANSIL™; Supplier 1: DigiKey; Supplier Part Number 1: 497-10794-1-ND; Supplier Device Package: SMC; Voltage - Clamping (Max) @ Ipp: 121V; Voltage - Reverse Standoff (Typ): 58.1V
footprint DO214AB SMC
pins: 1, 2

## SM15T68CA
designator D?
TVS DIODE 58.1V 121V SMC; Manufacturer: STMicroelectronics; Bidirectional Channels: 1; Current - Peak Pulse (10/1000µs): 83A (8/20µs); Power Line Protection: No; Power - Peak Pulse: 1500W (1.5kW); Type: Zener; Voltage - Breakdown (Min): 64.6V; Part Number: SM15T68CA; Applications: General Purpose; ComponentLink1Description: Datasheet; ComponentLink1URL: http://www.st.com/content/ccc/resource/technical/document/datasheet/a5/63/bb/0d/f0/b8/44/65/CD00000724.pdf/files/CD00000724.pdf/jcr:content/translations/en.CD00000724.pdf; ComponentLink2Description: DigiKey Link; ComponentLink2URL: http://digikey.com/product-detail/en/stmicroelectronics/SM15T68CA/497-7875-1-ND/1883595; LastUpdated: 9/2/2020 1:28:03 AM; Lifecycle Status: Active; Minimum Order: 1; Mounting Type: Surface Mount; Operating Temperature: -55°C ~ 150°C (TJ); Package / Case: DO-214AB, SMC; Packaging: TapeAndReel; PartId: 8103; Part Status: Active; Price: 0.37; Series: SM15T, TRANSIL™; Supplier 1: DigiKey; Supplier Part Number 1: 497-7875-1-ND; Supplier Device Package: SMC; Voltage - Clamping (Max) @ Ipp: 121V; Voltage - Reverse Standoff (Typ): 58.1V
footprint DO214AB SMC
pins: 1, 2

## SM15T68CA-E3/57T
designator D?
TVS DIODE 58.1V 92V DO214AB; Manufacturer: Vishay Semiconductor Diodes Division; Bidirectional Channels: 1; Current - Peak Pulse (10/1000µs): 16.3A; Power Line Protection: No; Power - Peak Pulse: 1500W (1.5kW); Type: Zener; Voltage - Breakdown (Min): 64.6V; Part Number: SM15T68CA-E3/57T; Applications: General Purpose; ComponentLink1Description: Datasheet; ComponentLink1URL: http://www.vishay.com/docs/88380/sm15t.pdf; ComponentLink2Description: DigiKey Link; ComponentLink2URL: http://digikey.com/product-detail/en/vishay-semiconductor-diodes-division/SM15T68CA-E3-57T/SM15T68CA-E3-57TGICT-ND/5639119; LastUpdated: 9/2/2020 1:28:05 AM; Lifecycle Status: Active; Minimum Order: 1; Mounting Type: Surface Mount; Operating Temperature: -65°C ~ 150°C (TJ); Package / Case: DO-214AB, SMC; Packaging: TapeAndReel; PartId: 8328; Part Status: Active; Price: 0.29; Series: SM15T, TransZorb®; Supplier 1: DigiKey; Supplier Part Number 1: SM15T68CA-E3/57TGICT-ND; Supplier Device Package: DO-214AB (SMCJ); Voltage - Clamping (Max) @ Ipp: 92V; Voltage - Reverse Standoff (Typ): 58.1V
footprint DO214AB SMC
pins: 1, 2

## SM15T68CAY
designator D?
TVS DIODE 58.1V 121V SMC; Manufacturer: STMicroelectronics; Bidirectional Channels: 1; Current - Peak Pulse (10/1000µs): 83A (8/20µs); Power Line Protection: No; Power - Peak Pulse: 1500W (1.5kW); Type: Zener; Voltage - Breakdown (Min): 64.6V; Part Number: SM15T68CAY; Applications: Automotive; ComponentLink1Description: Datasheet; ComponentLink1URL: http://www.st.com/content/ccc/resource/technical/document/datasheet/83/5f/b6/7b/63/85/41/b5/CD00283429.pdf/files/CD00283429.pdf/jcr:content/translations/en.CD00283429.pdf; ComponentLink2Description: DigiKey Link; ComponentLink2URL: http://digikey.com/product-detail/en/stmicroelectronics/SM15T68CAY/497-10907-1-ND/2522530; LastUpdated: 9/2/2020 1:28:08 AM; Lifecycle Status: Active; Minimum Order: 1; Mounting Type: Surface Mount; Operating Temperature: -40°C ~ 150°C (TJ); Package / Case: DO-214AB, SMC; Packaging: TapeAndReel; PartId: 8625; Part Status: Active; Price: 0.38; Series: Automotive, AEC-Q101, SM15TY, TRANSIL™; Supplier 1: DigiKey; Supplier Part Number 1: 497-10907-1-ND; Supplier Device Package: SMC; Voltage - Clamping (Max) @ Ipp: 121V; Voltage - Reverse Standoff (Typ): 58.1V
footprint DO214AB SMC
pins: 1, 2

## SM15T75AY
designator D?
TVS DIODE 64.1V 134V SMC; Manufacturer: STMicroelectronics; Current - Peak Pulse (10/1000µs): 75A (8/20µs); Power Line Protection: No; Power - Peak Pulse: 1500W (1.5kW); Type: Zener; Unidirectional Channels: 1; Voltage - Breakdown (Min): 71.3V; Part Number: SM15T75AY; Applications: Automotive; ComponentLink1Description: Datasheet; ComponentLink1URL: http://www.st.com/content/ccc/resource/technical/document/datasheet/83/5f/b6/7b/63/85/41/b5/CD00283429.pdf/files/CD00283429.pdf/jcr:content/translations/en.CD00283429.pdf; ComponentLink2Description: DigiKey Link; ComponentLink2URL: http://digikey.com/product-detail/en/stmicroelectronics/SM15T75AY/497-11782-1-ND/2756578; LastUpdated: 9/2/2020 1:20:06 AM; Lifecycle Status: Active; Minimum Order: 1; Mounting Type: Surface Mount; Operating Temperature: -40°C ~ 150°C (TJ); Package / Case: DO-214AB, SMC; Packaging: TapeAndReel; PartId: 7040; Part Status: Active; Price: 0.37; Series: Automotive, AEC-Q101, SM15TY, TRANSIL™; Supplier 1: DigiKey; Supplier Part Number 1: 497-11782-1-ND; Supplier Device Package: SMC; Voltage - Clamping (Max) @ Ipp: 134V; Voltage - Reverse Standoff (Typ): 64.1V
footprint DO214AB SMC
pins: 1, 2

## SM15T75CAY
designator D?
TVS DIODE 64.1V 134V SMC; Manufacturer: STMicroelectronics; Bidirectional Channels: 1; Current - Peak Pulse (10/1000µs): 75A (8/20µs); Power Line Protection: No; Power - Peak Pulse: 1500W (1.5kW); Type: Zener; Voltage - Breakdown (Min): 71.3V; Part Number: SM15T75CAY; Applications: Automotive; ComponentLink1Description: Datasheet; ComponentLink1URL: http://www.st.com/content/ccc/resource/technical/document/datasheet/83/5f/b6/7b/63/85/41/b5/CD00283429.pdf/files/CD00283429.pdf/jcr:content/translations/en.CD00283429.pdf; ComponentLink2Description: DigiKey Link; ComponentLink2URL: http://digikey.com/product-detail/en/stmicroelectronics/SM15T75CAY/497-11783-1-ND/2756575; LastUpdated: 9/2/2020 1:28:06 AM; Lifecycle Status: Active; Minimum Order: 1; Mounting Type: Surface Mount; Operating Temperature: -40°C ~ 150°C (TJ); Package / Case: DO-214AB, SMC; Packaging: TapeAndReel; PartId: 8438; Part Status: Active; Price: 0.38; Series: Automotive, AEC-Q101, SM15TY, TRANSIL™; Supplier 1: DigiKey; Supplier Part Number 1: 497-11783-1-ND; Supplier Device Package: SMC; Voltage - Clamping (Max) @ Ipp: 134V; Voltage - Reverse Standoff (Typ): 64.1V
footprint DO214AB SMC
pins: 1, 2

## SM15T82AY
designator D?
TVS DIODE 70V 146V SMC; Manufacturer: STMicroelectronics; Current - Peak Pulse (10/1000µs): 69A (8/20µs); Power Line Protection: No; Power - Peak Pulse: 1500W (1.5kW); Type: Zener; Unidirectional Channels: 1; Voltage - Breakdown (Min): 77.8V; Part Number: SM15T82AY; Applications: Automotive; ComponentLink1Description: Datasheet; ComponentLink1URL: http://www.st.com/content/ccc/resource/technical/document/datasheet/83/5f/b6/7b/63/85/41/b5/CD00283429.pdf/files/CD00283429.pdf/jcr:content/translations/en.CD00283429.pdf; ComponentLink2Description: DigiKey Link; ComponentLink2URL: http://digikey.com/product-detail/en/stmicroelectronics/SM15T82AY/497-11786-1-ND/2756585; LastUpdated: 9/2/2020 1:20:06 AM; Lifecycle Status: Active; Minimum Order: 1; Mounting Type: Surface Mount; Operating Temperature: -40°C ~ 150°C (TJ); Package / Case: DO-214AB, SMC; Packaging: TapeAndReel; PartId: 7039; Part Status: Active; Price: 0.37; Series: Automotive, AEC-Q101, SM15TY, TRANSIL™; Supplier 1: DigiKey; Supplier Part Number 1: 497-11786-1-ND; Supplier Device Package: SMC; Voltage - Clamping (Max) @ Ipp: 146V; Voltage - Reverse Standoff (Typ): 70V
footprint DO214AB SMC
pins: 1, 2

## SM15T82CAY
designator D?
TVS DIODE 70V 146V SMC; Manufacturer: STMicroelectronics; Bidirectional Channels: 1; Current - Peak Pulse (10/1000µs): 69A (8/20µs); Power Line Protection: No; Power - Peak Pulse: 1500W (1.5kW); Type: Zener; Voltage - Breakdown (Min): 77.8V; Part Number: SM15T82CAY; Applications: Automotive; ComponentLink1Description: Datasheet; ComponentLink1URL: http://www.st.com/content/ccc/resource/technical/document/datasheet/83/5f/b6/7b/63/85/41/b5/CD00283429.pdf/files/CD00283429.pdf/jcr:content/translations/en.CD00283429.pdf; ComponentLink2Description: DigiKey Link; ComponentLink2URL: http://digikey.com/product-detail/en/stmicroelectronics/SM15T82CAY/497-11787-1-ND/2756572; LastUpdated: 9/2/2020 1:28:08 AM; Lifecycle Status: Active; Minimum Order: 1; Mounting Type: Surface Mount; Operating Temperature: -40°C ~ 150°C (TJ); Package / Case: DO-214AB, SMC; Packaging: TapeAndReel; PartId: 8687; Part Status: Active; Price: 0.38; Series: Automotive, AEC-Q101, SM15TY, TRANSIL™; Supplier 1: DigiKey; Supplier Part Number 1: 497-11787-1-ND; Supplier Device Package: SMC; Voltage - Clamping (Max) @ Ipp: 146V; Voltage - Reverse Standoff (Typ): 70V
footprint DO214AB SMC
pins: 1, 2